# Altium schematic symbol library CON6.SchLib: 1 symbol
Pins are listed as number, name and electrical type; pins without a type are passive.

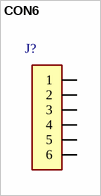
[diagram p0: symbol CON6]

## CON6
designator J?, comment 0527450697  (value not drawn)
ID: 0527450697; PDF: http://www.molex.com/pdm_docs/sd/527450697_sd.pdf; PRICE: 0.84000; BUY_LINK: http://www.digikey.com/product-detail/en/0527450697/WM7972CT-ND/2074161
footprint 0525590652
footprint 0527450697
pins: 1, 2, 3, 4, 5, 6